# EAGLE library part LTC4218 (library SSI)
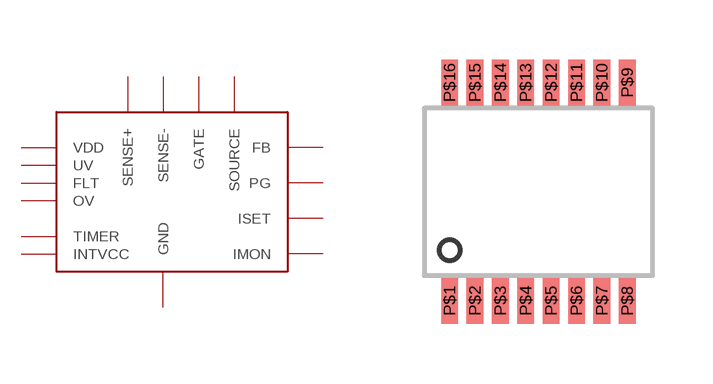
[diagram p21: symbol with the pads of SSOP-16; footprint SSOP-16]

Designator prefix -

## LTC4218  [SSOP-16]
P$2  VDD
P$3  UV
P$4  OV
P$5  TIMER
P$6  INTVCC
P$7  GND
P$8  SOURCE
P$9  GATE
P$10  PG
P$11  FLT
P$12  FB
P$13  IMON
P$14  ISET
P$15  SENSE-
P$16  SENSE+

## Footprint SSOP-16 (pad centres in mm)
smd 0.419 x 1.143: P$1 -2.223,-2.731; P$2 -1.587,-2.731; P$3 -0.953,-2.731; P$4 -0.318,-2.731; P$5 0.318,-2.731; P$6 0.953,-2.731; P$7 1.587,-2.731; P$8 2.223,-2.731; P$9 2.223,2.731; P$10 1.587,2.731; P$11 0.953,2.731; P$12 0.318,2.731; P$13 -0.318,2.731; P$14 -0.953,2.731; P$15 -1.587,2.731; P$16 -2.223,2.731